# EAGLE library part 90814-0226 (library molex)
CONN HEADER 06 POS 1.27MM SMD TIN
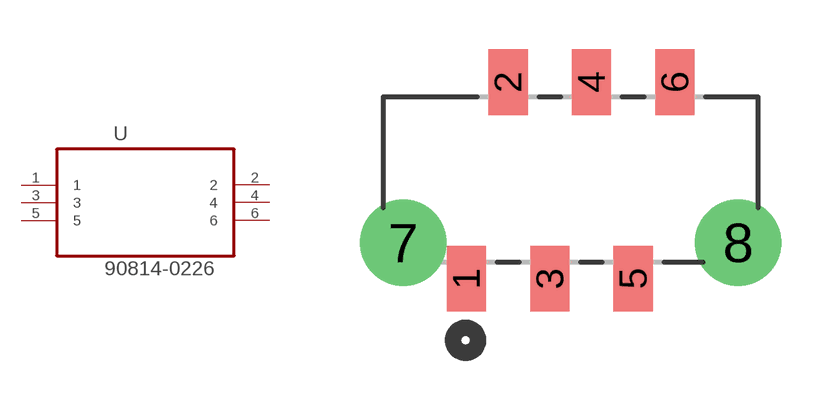
[diagram p54: symbol with the pads of MOLEX_90814-0226; footprint MOLEX_90814-0226]

Designator prefix U

## 90814-0226 (MPN: 90814-0226; OC_FARNELL: 1757031; OC_NEWARK: 34R6221; PACKAGE: CONN-6 POS; SUPPLIER: Molex)  [MOLEX_90814-0226]
1  1  pas
2  2  pas
3  3  pas
4  4  pas
5  5  pas
6  6  pas

## Footprint MOLEX_90814-0226 (pad centres in mm)
smd 1.194 x 2.007: 1 0,0; 2 1.27,5.994; 3 2.54,0; 4 3.81,5.994; 5 5.08,0; 6 6.35,5.994
drill 1.753: 7 -1.93,1.092; 8 8.28,1.092